# Altium schematic symbol library TL431LIBCDBZR.SchLib: 1 symbol
Pins are listed as number, name and electrical type; pins without a type are passive.

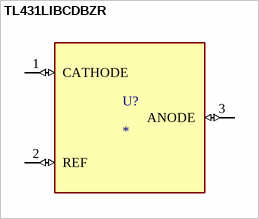
[diagram p0: symbol TL431LIBCDBZR]

## TL431LIBCDBZR
designator U?
Adjustable precision shunt regulator with optimized reference current (pin layout: KRA); MF: Texas Instruments; MP: TL431LIBCDBZR; SnapEDA_Link: https://www.snapeda.com/parts/TL431LIBCDBZR/Texas+Instruments/view-part/?ref=snap; Package: SOT-23-3 Texas Instruments; Value: *; Check_prices: https://www.snapeda.com/parts/TL431LIBCDBZR/Texas+Instruments/view-part/?ref=eda
footprint SOT23
pins: 1 CATHODE (io), 2 REF (io), 3 ANODE (io)